# Altium integrated library NSC Amplifier.IntLib: 1615 symbols (part 22 of 44)
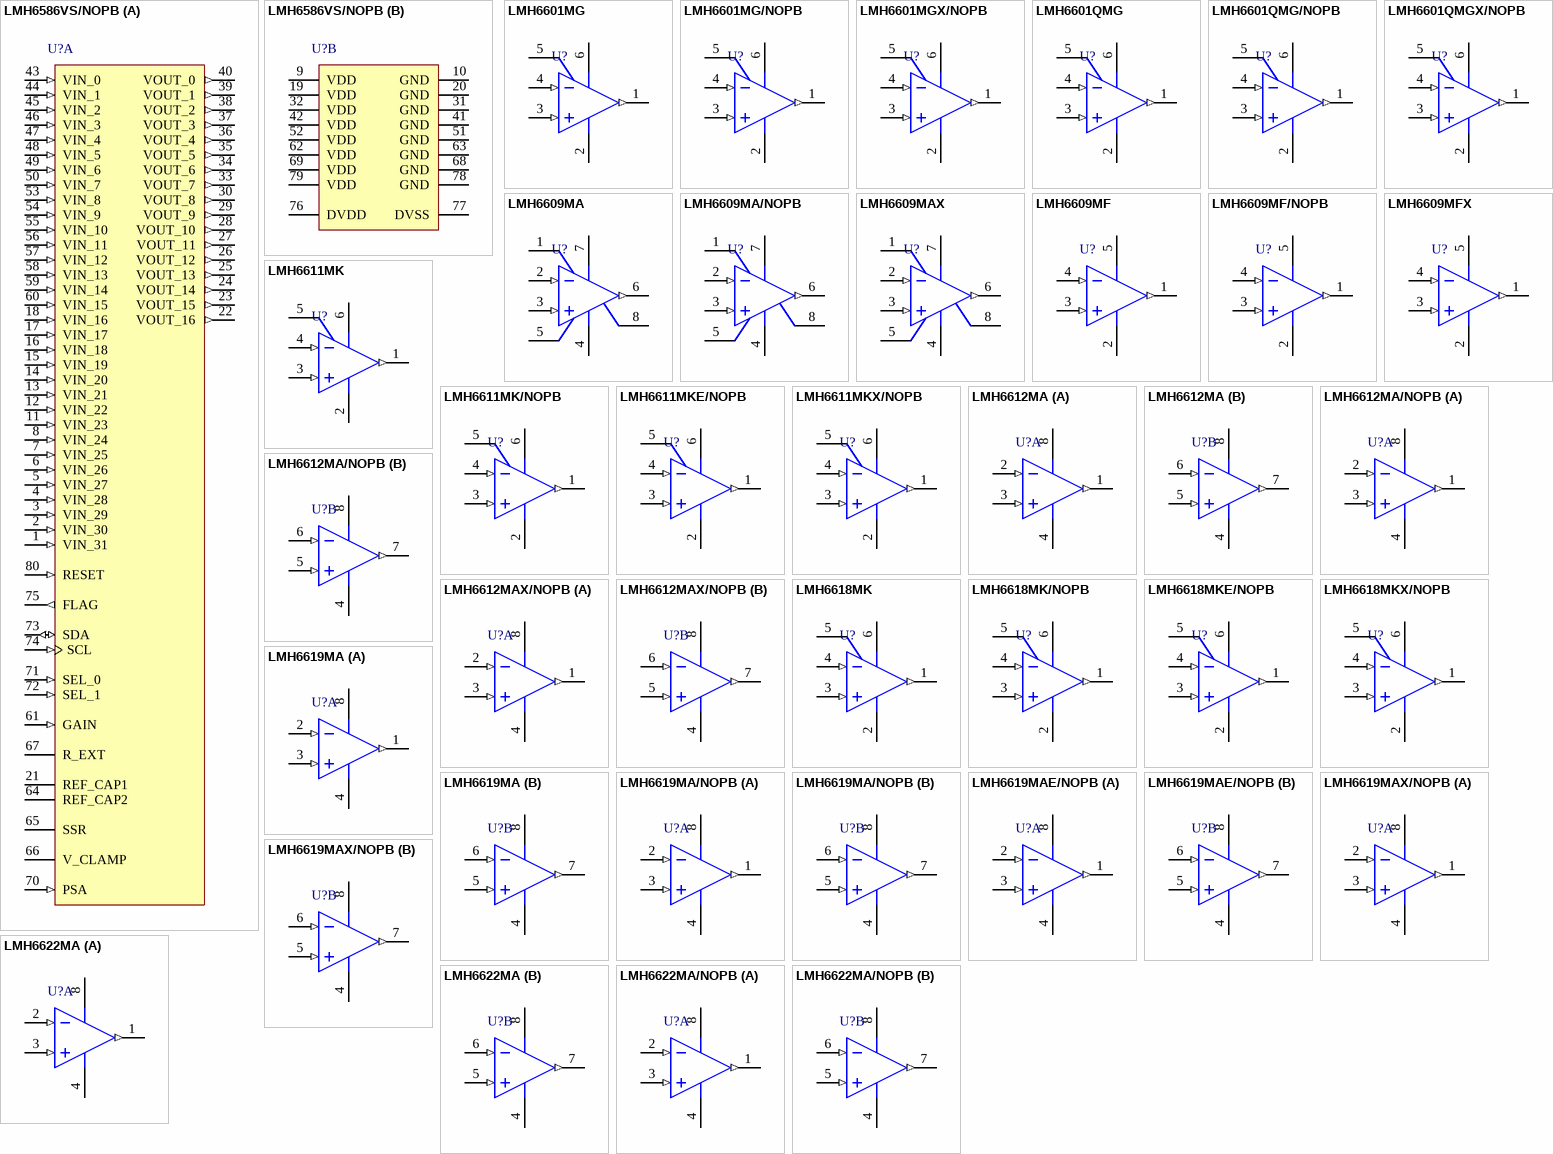
[diagram p103: symbols LMH6586VS/NOPB to LMH6622MA/NOPB]

## LMH6609MAX
designator U?
900 MHz Voltage Feedback Op Amp, 8-pin Narrow SOIC; PartNumber: LMH6609MAX; Manufacturer: National Semiconductor; PackageTopMarking: NSZXTT*LMH66*09MA; PowerWise: N; CompType: Amplifiers; Published: 1-Mar-2010; DatasheetVersion: Aug-2003; PackageVersion: revM, May-2009; PackageReference: M08A; Publisher: Altium Limited; PackageDescription: SOIC Narrow, 4.9 x 3.9 x 1.45mm, 8 Lead, 1.27mm Pitch; RoHS: N; PinCount: 8; Code_JEDEC: MS-012-AA; Code_IPC: SOIC127P600-8; ComponentLink1Description: LMH6609 Datasheet; ComponentLink1URL: http://www.national.com/ds/LM/LMH6609.pdf; ComponentLink2Description: LMH6609 Web Page; ComponentLink2URL: http://www.national.com/pf/LM/LMH6609.html; ComponentLink3Description: M08A Package Page; ComponentLink3URL: http://www.national.com/packaging/folders/m08a.html
footprint M08A_N (SOIC, 8-Leads, Body 4.9x3.9mm, Pitch 1.27mm, IPC Medium Density)
footprint M08A_L (SOIC, 8-Leads, Body 4.9x3.9mm, Pitch 1.27mm, IPC High Density)
footprint M08A_M (SOIC, 8-Leads, Body 4.9x3.9mm, Pitch 1.27mm, IPC Low Density)
simulation model LMH6609 (SUBCKT)
pins: 1 NC, 2 IN- (in), 3 IN+ (in), 4 V- (power), 5 NC, 6 OUT (out), 7 V+ (power), 8 NC

## LMH6609MF
designator U?
900 MHz Voltage Feedback Op Amp, 5-pin SOT-23; PartNumber: LMH6609MF; Manufacturer: National Semiconductor; PackageTopMarking: A89A*XTT; PowerWise: N; CompType: Amplifiers; Published: 4-Dec-2008; LatestRevisionDate: 13-Jan-2009; LatestRevisionNote: Sim Model Added.; DatasheetVersion: Aug-2003; PackageVersion: revD, Aug-2008; PackageReference: MF05A; Publisher: Altium Limited; PackageDescription: Molded SOT-23, .115 x .063 x .040 in Body, 5 Lead, .0375 in Pitch; Supplier 1: Farnell; Supplier Part Number 1: 8180741; RoHS: N; PinCount: 5; ComponentLink1Description: LMH6609 Datasheet; ComponentLink1URL: http://www.national.com/ds/LM/LMH6609.pdf; ComponentLink2Description: LMH6609 Web Page; ComponentLink2URL: http://www.national.com/pf/LM/LMH6609.html; ComponentLink3Description: MF05A Package Page; ComponentLink3URL: http://www.national.com/packaging/folders/mf05a.html
footprint MF05A_N (SOT23, 5-Leads, Body 2.9x1.6mm, Pitch 0.95mm, Lead Span 2.8mm, IPC Medium Density)
footprint MF05A_L (SOT23, 5-Leads, Body 2.9x1.6mm, Pitch 0.95mm, Lead Span 2.8mm, IPC High Density)
footprint MF05A_M (SOT23, 5-Leads, Body 2.9x1.6mm, Pitch 0.95mm, Lead Span 2.8mm, IPC Low Density)
simulation model LMH6609 (SUBCKT)
pins: 1 OUT (out), 2 V- (power), 3 IN+ (in), 4 IN- (in), 5 V+ (power)

## LMH6609MF/NOPB
designator U?
900 MHz Voltage Feedback Op Amp, 5-pin SOT-23, Pb-Free; PartNumber: LMH6609MF/NOPB; Manufacturer: National Semiconductor; PackageTopMarking: A89A*XTT; PowerWise: N; CompType: Amplifiers; Published: 1-Mar-2010; DatasheetVersion: Aug-2003; PackageVersion: revD, Aug-2008; PackageReference: MF05A; Publisher: Altium Limited; PackageDescription: Molded SOT-23, .115 x .063 x .040 in Body, 5 Lead, .0375 in Pitch; Supplier 1: Digi-Key; Supplier Part Number 1: LMH6609MFTR-ND; Supplier 2: Digi-Key; Supplier Part Number 2: LMH6609MFCT-ND; Supplier 3: Digi-Key; Supplier Part Number 3: LMH6609MFDKR-ND; Supplier 4: Farnell; Supplier Part Number 4: 1685370; RoHS: Y; PinCount: 5; ComponentLink1Description: LMH6609 Datasheet; ComponentLink1URL: http://www.national.com/ds/LM/LMH6609.pdf; ComponentLink2Description: LMH6609 Web Page; ComponentLink2URL: http://www.national.com/pf/LM/LMH6609.html; ComponentLink3Description: MF05A Package Page; ComponentLink3URL: http://www.national.com/packaging/folders/mf05a.html
footprint MF05A_N (SOT23, 5-Leads, Body 2.9x1.6mm, Pitch 0.95mm, Lead Span 2.8mm, IPC Medium Density)
footprint MF05A_L (SOT23, 5-Leads, Body 2.9x1.6mm, Pitch 0.95mm, Lead Span 2.8mm, IPC High Density)
footprint MF05A_M (SOT23, 5-Leads, Body 2.9x1.6mm, Pitch 0.95mm, Lead Span 2.8mm, IPC Low Density)
simulation model LMH6609 (SUBCKT)
pins: 1 OUT (out), 2 V- (power), 3 IN+ (in), 4 IN- (in), 5 V+ (power)

## LMH6609MFX
designator U?
900 MHz Voltage Feedback Op Amp, 5-pin SOT-23; PartNumber: LMH6609MFX; Manufacturer: National Semiconductor; PackageTopMarking: A89A*XTT; PowerWise: N; CompType: Amplifiers; Published: 1-Mar-2010; DatasheetVersion: Aug-2003; PackageVersion: revD, Aug-2008; PackageReference: MF05A; Publisher: Altium Limited; PackageDescription: Molded SOT-23, .115 x .063 x .040 in Body, 5 Lead, .0375 in Pitch; RoHS: N; PinCount: 5; ComponentLink1Description: LMH6609 Datasheet; ComponentLink1URL: http://www.national.com/ds/LM/LMH6609.pdf; ComponentLink2Description: LMH6609 Web Page; ComponentLink2URL: http://www.national.com/pf/LM/LMH6609.html; ComponentLink3Description: MF05A Package Page; ComponentLink3URL: http://www.national.com/packaging/folders/mf05a.html
footprint MF05A_N (SOT23, 5-Leads, Body 2.9x1.6mm, Pitch 0.95mm, Lead Span 2.8mm, IPC Medium Density)
footprint MF05A_L (SOT23, 5-Leads, Body 2.9x1.6mm, Pitch 0.95mm, Lead Span 2.8mm, IPC High Density)
footprint MF05A_M (SOT23, 5-Leads, Body 2.9x1.6mm, Pitch 0.95mm, Lead Span 2.8mm, IPC Low Density)
simulation model LMH6609 (SUBCKT)
pins: 1 OUT (out), 2 V- (power), 3 IN+ (in), 4 IN- (in), 5 V+ (power)

## LMH6611MK
designator U?
Single Supply 345 MHz Rail-to-Rail Output Amplifier, 6-pin Tiny SOT23; PartNumber: LMH6611MK; Manufacturer: National Semiconductor; PackageTopMarking: AX4A*XTT; PowerWise: Y; CompType: Amplifiers; Published: 4-Dec-2008; DatasheetVersion: Jan-2010; PackageVersion: revE, Nov-2008; PackageReference: MK06A; Publisher: Altium Limited; PackageDescription: Molded TSOT, 2.97 x 1.65 x 0.87mm Body, 6 Lead, 0.95mm Pitch; RoHS: Y; PinCount: 6; Code_JEDEC: MO-193-AA; Code_IPC: SOT26A-6; ComponentLink1Description: LMH6611 Datasheet; ComponentLink1URL: http://www.national.com/ds/LM/LMH6611.pdf; ComponentLink2Description: LMH6611 Web Page; ComponentLink2URL: http://www.national.com/pf/LM/LMH6611.html; ComponentLink3Description: MK06A Package Page; ComponentLink3URL: http://www.national.com/packaging/folders/mk06a.html
footprint MK06A_N (SOT23, 6-Leads, Body 3.0x1.7mm, Pitch 0.95mm, Lead Span 2.9mm, IPC Medium Density)
footprint MK06A_L (SOT23, 6-Leads, Body 3.0x1.7mm, Pitch 0.95mm, Lead Span 2.9mm, IPC High Density)
footprint MK06A_M (SOT23, 6-Leads, Body 3.0x1.7mm, Pitch 0.95mm, Lead Span 2.9mm, IPC Low Density)
pins: 1 OUT (out), 2 V- (power), 3 IN+ (in), 4 IN- (in), 5 ~{DIS}, 6 V+ (power)

## LMH6611MK/NOPB
designator U?
Single Supply 345 MHz Rail-to-Rail Output Amplifier, 6-pin Tiny SOT23, Pb-Free; PartNumber: LMH6611MK/NOPB; Manufacturer: National Semiconductor; PackageTopMarking: AX4A*XTT; PowerWise: Y; CompType: Amplifiers; Published: 1-Mar-2010; DatasheetVersion: Jan-2010; PackageVersion: revE, Nov-2008; PackageReference: MK06A; Publisher: Altium Limited; PackageDescription: Molded TSOT, 2.97 x 1.65 x 0.87mm Body, 6 Lead, 0.95mm Pitch; Supplier 1: Digi-Key; Supplier Part Number 1: LMH6611MK-ND; RoHS: Y; PinCount: 6; Code_JEDEC: MO-193-AA; Code_IPC: SOT26A-6; ComponentLink1Description: LMH6611 Datasheet; ComponentLink1URL: http://www.national.com/ds/LM/LMH6611.pdf; ComponentLink2Description: LMH6611 Web Page; ComponentLink2URL: http://www.national.com/pf/LM/LMH6611.html; ComponentLink3Description: MK06A Package Page; ComponentLink3URL: http://www.national.com/packaging/folders/mk06a.html
footprint MK06A_N (SOT23, 6-Leads, Body 3.0x1.7mm, Pitch 0.95mm, Lead Span 2.9mm, IPC Medium Density)
footprint MK06A_L (SOT23, 6-Leads, Body 3.0x1.7mm, Pitch 0.95mm, Lead Span 2.9mm, IPC High Density)
footprint MK06A_M (SOT23, 6-Leads, Body 3.0x1.7mm, Pitch 0.95mm, Lead Span 2.9mm, IPC Low Density)
simulation model LMH6611 (SUBCKT)
pins: 1 OUT (out), 2 V- (power), 3 IN+ (in), 4 IN- (in), 5 ~{DIS}, 6 V+ (power)

## LMH6611MKE/NOPB
designator U?
Single Supply 345 MHz Rail-to-Rail Output Amplifier, 6-pin Tiny SOT23, Pb-Free; PartNumber: LMH6611MKE/NOPB; Manufacturer: National Semiconductor; PackageTopMarking: AX4A*XTT; PowerWise: Y; CompType: Amplifiers; Published: 1-Mar-2010; DatasheetVersion: Jan-2010; PackageVersion: revE, Nov-2008; PackageReference: MK06A; Publisher: Altium Limited; PackageDescription: Molded TSOT, 2.97 x 1.65 x 0.87mm Body, 6 Lead, 0.95mm Pitch; Supplier 1: Digi-Key; Supplier Part Number 1: LMH6611MKETR-ND; Supplier 2: Digi-Key; Supplier Part Number 2: LMH6611MKECT-ND; Supplier 3: Digi-Key; Supplier Part Number 3: LMH6611MKEDKR-ND; Supplier 4: Farnell; Supplier Part Number 4: 1694367; RoHS: Y; PinCount: 6; Code_JEDEC: MO-193-AA; Code_IPC: SOT26A-6; ComponentLink1Description: LMH6611 Datasheet; ComponentLink1URL: http://www.national.com/ds/LM/LMH6611.pdf; ComponentLink2Description: LMH6611 Web Page; ComponentLink2URL: http://www.national.com/pf/LM/LMH6611.html; ComponentLink3Description: MK06A Package Page; ComponentLink3URL: http://www.national.com/packaging/folders/mk06a.html
footprint MK06A_N (SOT23, 6-Leads, Body 3.0x1.7mm, Pitch 0.95mm, Lead Span 2.9mm, IPC Medium Density)
footprint MK06A_L (SOT23, 6-Leads, Body 3.0x1.7mm, Pitch 0.95mm, Lead Span 2.9mm, IPC High Density)
footprint MK06A_M (SOT23, 6-Leads, Body 3.0x1.7mm, Pitch 0.95mm, Lead Span 2.9mm, IPC Low Density)
simulation model LMH6611 (SUBCKT)
pins: 1 OUT (out), 2 V- (power), 3 IN+ (in), 4 IN- (in), 5 ~{DIS}, 6 V+ (power)

## LMH6611MKX/NOPB
designator U?
Single Supply 345 MHz Rail-to-Rail Output Amplifier, 6-pin Tiny SOT23, Pb-Free; PartNumber: LMH6611MKX/NOPB; Manufacturer: National Semiconductor; PackageTopMarking: AX4A*XTT; PowerWise: Y; CompType: Amplifiers; Published: 1-Mar-2010; DatasheetVersion: Jan-2010; PackageVersion: revE, Nov-2008; PackageReference: MK06A; Publisher: Altium Limited; PackageDescription: Molded TSOT, 2.97 x 1.65 x 0.87mm Body, 6 Lead, 0.95mm Pitch; Supplier 1: Digi-Key; Supplier Part Number 1: LMH6611MKX-ND; RoHS: Y; PinCount: 6; Code_JEDEC: MO-193-AA; Code_IPC: SOT26A-6; ComponentLink1Description: LMH6611 Datasheet; ComponentLink1URL: http://www.national.com/ds/LM/LMH6611.pdf; ComponentLink2Description: LMH6611 Web Page; ComponentLink2URL: http://www.national.com/pf/LM/LMH6611.html; ComponentLink3Description: MK06A Package Page; ComponentLink3URL: http://www.national.com/packaging/folders/mk06a.html
footprint MK06A_N (SOT23, 6-Leads, Body 3.0x1.7mm, Pitch 0.95mm, Lead Span 2.9mm, IPC Medium Density)
footprint MK06A_L (SOT23, 6-Leads, Body 3.0x1.7mm, Pitch 0.95mm, Lead Span 2.9mm, IPC High Density)
footprint MK06A_M (SOT23, 6-Leads, Body 3.0x1.7mm, Pitch 0.95mm, Lead Span 2.9mm, IPC Low Density)
simulation model LMH6611 (SUBCKT)
pins: 1 OUT (out), 2 V- (power), 3 IN+ (in), 4 IN- (in), 5 ~{DIS}, 6 V+ (power)

## LMH6612MA
designator U?
Single Supply, Dual 345 MHz Rail-to-Rail Output Amplifier, 8-pin Narrow SOIC; PartNumber: LMH6612MA; Manufacturer: National Semiconductor; PackageTopMarking: NSZXTT*LMH66*12MA; PowerWise: Y; CompType: Amplifiers; Published: 4-Dec-2008; DatasheetVersion: Jan-2010; PackageVersion: revM, May-2009; PackageReference: M08A; Publisher: Altium Limited; PackageDescription: SOIC Narrow, 4.9 x 3.9 x 1.45mm, 8 Lead, 1.27mm Pitch; Supplier 1: Farnell; Supplier Part Number 1: 1609184; RoHS: Y; PinCount: 8; Code_JEDEC: MS-012-AA; Code_IPC: SOIC127P600-8; ComponentLink1Description: LMH6612 Datasheet; ComponentLink1URL: http://www.national.com/ds/LM/LMH6612.pdf; ComponentLink2Description: LMH6612 Web Page; ComponentLink2URL: http://www.national.com/pf/LM/LMH6612.html; ComponentLink3Description: M08A Package Page; ComponentLink3URL: http://www.national.com/packaging/folders/m08a.html
footprint M08A_N (SOIC, 8-Leads, Body 4.9x3.9mm, Pitch 1.27mm, IPC Medium Density)
footprint M08A_L (SOIC, 8-Leads, Body 4.9x3.9mm, Pitch 1.27mm, IPC High Density)
footprint M08A_M (SOIC, 8-Leads, Body 4.9x3.9mm, Pitch 1.27mm, IPC Low Density)
pins on every part: 4 V- (power), 8 V+ (power)
part A pins: 1 OUTA (out), 2 INA- (in), 3 INA+ (in)
part B pins: 5 INB+ (in), 6 INB- (in), 7 OUTB (out)

## LMH6612MA/NOPB
designator U?
Single Supply, Dual 345 MHz Rail-to-Rail Output Amplifier, 8-pin Narrow SOIC, Pb-Free; PartNumber: LMH6612MA/NOPB; Manufacturer: National Semiconductor; PackageTopMarking: NSZXTT*LMH66*12MA; PowerWise: Y; CompType: Amplifiers; Published: 1-Mar-2010; DatasheetVersion: Jan-2010; PackageVersion: revM, May-2009; PackageReference: M08A; Publisher: Altium Limited; PackageDescription: SOIC Narrow, 4.9 x 3.9 x 1.45mm, 8 Lead, 1.27mm Pitch; Supplier 1: Digi-Key; Supplier Part Number 1: LMH6612MA-ND; RoHS: Y; PinCount: 8; Code_JEDEC: MS-012-AA; Code_IPC: SOIC127P600-8; ComponentLink1Description: LMH6612 Datasheet; ComponentLink1URL: http://www.national.com/ds/LM/LMH6612.pdf; ComponentLink2Description: LMH6612 Web Page; ComponentLink2URL: http://www.national.com/pf/LM/LMH6612.html; ComponentLink3Description: M08A Package Page; ComponentLink3URL: http://www.national.com/packaging/folders/m08a.html
footprint M08A_N (SOIC, 8-Leads, Body 4.9x3.9mm, Pitch 1.27mm, IPC Medium Density)
footprint M08A_L (SOIC, 8-Leads, Body 4.9x3.9mm, Pitch 1.27mm, IPC High Density)
footprint M08A_M (SOIC, 8-Leads, Body 4.9x3.9mm, Pitch 1.27mm, IPC Low Density)
simulation model LMH6612 (SUBCKT)
pins on every part: 4 V- (power), 8 V+ (power)
part A pins: 1 OUTA (out), 2 INA- (in), 3 INA+ (in)
part B pins: 5 INB+ (in), 6 INB- (in), 7 OUTB (out)

## LMH6612MAX/NOPB
designator U?
Single Supply, Dual 345 MHz Rail-to-Rail Output Amplifier, 8-pin Narrow SOIC, Pb-Free; PartNumber: LMH6612MAX/NOPB; Manufacturer: National Semiconductor; PackageTopMarking: NSZXTT*LMH66*12MA; PowerWise: Y; CompType: Amplifiers; Published: 1-Mar-2010; DatasheetVersion: Jan-2010; PackageVersion: revM, May-2009; PackageReference: M08A; Publisher: Altium Limited; PackageDescription: SOIC Narrow, 4.9 x 3.9 x 1.45mm, 8 Lead, 1.27mm Pitch; Supplier 1: Digi-Key; Supplier Part Number 1: LMH6612MAX-ND; RoHS: Y; PinCount: 8; Code_JEDEC: MS-012-AA; Code_IPC: SOIC127P600-8; ComponentLink1Description: LMH6612 Datasheet; ComponentLink1URL: http://www.national.com/ds/LM/LMH6612.pdf; ComponentLink2Description: LMH6612 Web Page; ComponentLink2URL: http://www.national.com/pf/LM/LMH6612.html; ComponentLink3Description: M08A Package Page; ComponentLink3URL: http://www.national.com/packaging/folders/m08a.html
footprint M08A_N (SOIC, 8-Leads, Body 4.9x3.9mm, Pitch 1.27mm, IPC Medium Density)
footprint M08A_L (SOIC, 8-Leads, Body 4.9x3.9mm, Pitch 1.27mm, IPC High Density)
footprint M08A_M (SOIC, 8-Leads, Body 4.9x3.9mm, Pitch 1.27mm, IPC Low Density)
simulation model LMH6612 (SUBCKT)
pins on every part: 4 V- (power), 8 V+ (power)
part A pins: 1 OUTA (out), 2 INA- (in), 3 INA+ (in)
part B pins: 5 INB+ (in), 6 INB- (in), 7 OUTB (out)

## LMH6618MK
designator U?
Single 130 MHz, 1.25 mA RRIO Operational Amplifiers, 6-pin Tiny SOT23; PartNumber: LMH6618MK; Manufacturer: National Semiconductor; PackageTopMarking: AE4A*XTT; PowerWise: Y; Published: 4-Dec-2008; LatestRevisionDate: 13-Jan-2009; LatestRevisionNote: Sim Model Added.; DatasheetVersion: Aug-2008; PackageVersion: revE, Nov-2008; PackageReference: MK06A; Publisher: Altium Limited; PackageDescription: Molded TSOT, 2.97 x 1.65 x 0.87mm Body, 6 Lead, 0.95mm Pitch; RoHS: Y; PinCount: 6; CompType: Amplifiers; Code_JEDEC: MO-193-AA; Code_IPC: SOT26A-6; ComponentLink1Description: LMH6618 Datasheet; ComponentLink1URL: http://www.national.com/ds/LM/LMH6618.pdf; ComponentLink2Description: LMH6618 Web Page; ComponentLink2URL: http://www.national.com/pf/LM/LMH6618.html; ComponentLink3Description: MK06A Package Page; ComponentLink3URL: http://www.national.com/packaging/folders/mk06a.html
footprint MK06A_N (SOT23, 6-Leads, Body 3.0x1.7mm, Pitch 0.95mm, Lead Span 2.9mm, IPC Medium Density)
footprint MK06A_L (SOT23, 6-Leads, Body 3.0x1.7mm, Pitch 0.95mm, Lead Span 2.9mm, IPC High Density)
footprint MK06A_M (SOT23, 6-Leads, Body 3.0x1.7mm, Pitch 0.95mm, Lead Span 2.9mm, IPC Low Density)
simulation model LMH6618 (SUBCKT)
pins: 1 OUT (out), 2 V- (power), 3 IN+ (in), 4 IN- (in), 5 ~{DIS}, 6 V+ (power)

## LMH6618MK/NOPB
designator U?
Single 130 MHz, 1.25 mA RRIO Operational Amplifiers, 6-pin Tiny SOT23, Pb-Free; PartNumber: LMH6618MK/NOPB; Manufacturer: National Semiconductor; PackageTopMarking: AE4A*XTT; PowerWise: Y; Published: 1-Mar-2010; DatasheetVersion: Aug-2008; PackageVersion: revE, Nov-2008; PackageReference: MK06A; Publisher: Altium Limited; PackageDescription: Molded TSOT, 2.97 x 1.65 x 0.87mm Body, 6 Lead, 0.95mm Pitch; Supplier 1: Digi-Key; Supplier Part Number 1: LMH6618MKTR-ND; Supplier 2: Digi-Key; Supplier Part Number 2: LMH6618MKCT-ND; Supplier 3: Digi-Key; Supplier Part Number 3: LMH6618MKDKR-ND; RoHS: Y; PinCount: 6; CompType: Amplifiers; Code_JEDEC: MO-193-AA; Code_IPC: SOT26A-6; ComponentLink1Description: LMH6618 Datasheet; ComponentLink1URL: http://www.national.com/ds/LM/LMH6618.pdf; ComponentLink2Description: LMH6618 Web Page; ComponentLink2URL: http://www.national.com/pf/LM/LMH6618.html; ComponentLink3Description: MK06A Package Page; ComponentLink3URL: http://www.national.com/packaging/folders/mk06a.html
footprint MK06A_N (SOT23, 6-Leads, Body 3.0x1.7mm, Pitch 0.95mm, Lead Span 2.9mm, IPC Medium Density)
footprint MK06A_L (SOT23, 6-Leads, Body 3.0x1.7mm, Pitch 0.95mm, Lead Span 2.9mm, IPC High Density)
footprint MK06A_M (SOT23, 6-Leads, Body 3.0x1.7mm, Pitch 0.95mm, Lead Span 2.9mm, IPC Low Density)
simulation model LMH6618 (SUBCKT)
pins: 1 OUT (out), 2 V- (power), 3 IN+ (in), 4 IN- (in), 5 ~{DIS}, 6 V+ (power)

## LMH6618MKE/NOPB
designator U?
Single 130 MHz, 1.25 mA RRIO Operational Amplifiers, 6-pin Tiny SOT23, Pb-Free; PartNumber: LMH6618MKE/NOPB; Manufacturer: National Semiconductor; PackageTopMarking: AE4A*XTT; PowerWise: Y; Published: 1-Mar-2010; DatasheetVersion: Aug-2008; PackageVersion: revE, Nov-2008; PackageReference: MK06A; Publisher: Altium Limited; PackageDescription: Molded TSOT, 2.97 x 1.65 x 0.87mm Body, 6 Lead, 0.95mm Pitch; Supplier 1: Digi-Key; Supplier Part Number 1: LMH6618MKE-ND; RoHS: Y; PinCount: 6; CompType: Amplifiers; Code_JEDEC: MO-193-AA; Code_IPC: SOT26A-6; ComponentLink1Description: LMH6618 Datasheet; ComponentLink1URL: http://www.national.com/ds/LM/LMH6618.pdf; ComponentLink2Description: LMH6618 Web Page; ComponentLink2URL: http://www.national.com/pf/LM/LMH6618.html; ComponentLink3Description: MK06A Package Page; ComponentLink3URL: http://www.national.com/packaging/folders/mk06a.html
footprint MK06A_N (SOT23, 6-Leads, Body 3.0x1.7mm, Pitch 0.95mm, Lead Span 2.9mm, IPC Medium Density)
footprint MK06A_L (SOT23, 6-Leads, Body 3.0x1.7mm, Pitch 0.95mm, Lead Span 2.9mm, IPC High Density)
footprint MK06A_M (SOT23, 6-Leads, Body 3.0x1.7mm, Pitch 0.95mm, Lead Span 2.9mm, IPC Low Density)
simulation model LMH6618 (SUBCKT)
pins: 1 OUT (out), 2 V- (power), 3 IN+ (in), 4 IN- (in), 5 ~{DIS}, 6 V+ (power)

## LMH6618MKX/NOPB
designator U?
Single 130 MHz, 1.25 mA RRIO Operational Amplifiers, 6-pin Tiny SOT23, Pb-Free; PartNumber: LMH6618MKX/NOPB; Manufacturer: National Semiconductor; PackageTopMarking: AE4A*XTT; PowerWise: Y; Published: 1-Mar-2010; DatasheetVersion: Aug-2008; PackageVersion: revE, Nov-2008; PackageReference: MK06A; Publisher: Altium Limited; PackageDescription: Molded TSOT, 2.97 x 1.65 x 0.87mm Body, 6 Lead, 0.95mm Pitch; Supplier 1: Digi-Key; Supplier Part Number 1: LMH6618MKX-ND; RoHS: Y; PinCount: 6; CompType: Amplifiers; Code_JEDEC: MO-193-AA; Code_IPC: SOT26A-6; ComponentLink1Description: LMH6618 Datasheet; ComponentLink1URL: http://www.national.com/ds/LM/LMH6618.pdf; ComponentLink2Description: LMH6618 Web Page; ComponentLink2URL: http://www.national.com/pf/LM/LMH6618.html; ComponentLink3Description: MK06A Package Page; ComponentLink3URL: http://www.national.com/packaging/folders/mk06a.html
footprint MK06A_N (SOT23, 6-Leads, Body 3.0x1.7mm, Pitch 0.95mm, Lead Span 2.9mm, IPC Medium Density)
footprint MK06A_L (SOT23, 6-Leads, Body 3.0x1.7mm, Pitch 0.95mm, Lead Span 2.9mm, IPC High Density)
footprint MK06A_M (SOT23, 6-Leads, Body 3.0x1.7mm, Pitch 0.95mm, Lead Span 2.9mm, IPC Low Density)
simulation model LMH6618 (SUBCKT)
pins: 1 OUT (out), 2 V- (power), 3 IN+ (in), 4 IN- (in), 5 ~{DIS}, 6 V+ (power)

## LMH6619MA
designator U?
Dual 130 MHz, 1.25 mA RRIO Operational Amplifiers, 8-pin Narrow SOIC; PartNumber: LMH6619MA; Manufacturer: National Semiconductor; PackageTopMarking: NSZXTT*LMH66*19MA; PowerWise: Y; Published: 4-Dec-2008; LatestRevisionDate: 13-Jan-2009; LatestRevisionNote: Sim Model Added.; DatasheetVersion: Aug-2008; PackageVersion: revM, May-2009; PackageReference: M08A; Publisher: Altium Limited; PackageDescription: SOIC Narrow, 4.9 x 3.9 x 1.45mm, 8 Lead, 1.27mm Pitch; Supplier 1: Farnell; Supplier Part Number 1: 1535367; RoHS: Y; PinCount: 8; CompType: Amplifiers; Code_JEDEC: MS-012-AA; Code_IPC: SOIC127P600-8; ComponentLink1Description: LMH6619 Datasheet; ComponentLink1URL: http://www.national.com/ds/LM/LMH6619.pdf; ComponentLink2Description: LMH6619 Web Page; ComponentLink2URL: http://www.national.com/pf/LM/LMH6619.html; ComponentLink3Description: M08A Package Page; ComponentLink3URL: http://www.national.com/packaging/folders/m08a.html
footprint M08A_N (SOIC, 8-Leads, Body 4.9x3.9mm, Pitch 1.27mm, IPC Medium Density)
footprint M08A_L (SOIC, 8-Leads, Body 4.9x3.9mm, Pitch 1.27mm, IPC High Density)
footprint M08A_M (SOIC, 8-Leads, Body 4.9x3.9mm, Pitch 1.27mm, IPC Low Density)
simulation model LMH6619 (SUBCKT)
pins on every part: 4 V- (power), 8 V+ (power)
part A pins: 1 OUTA (out), 2 INA- (in), 3 INA+ (in)
part B pins: 5 INB+ (in), 6 INB- (in), 7 OUTB (out)

## LMH6619MA/NOPB
designator U?
Dual 130 MHz, 1.25 mA RRIO Operational Amplifiers, 8-pin Narrow SOIC, Pb-Free; PartNumber: LMH6619MA/NOPB; Manufacturer: National Semiconductor; PackageTopMarking: NSZXTT*LMH66*19MA; PowerWise: Y; Published: 1-Mar-2010; DatasheetVersion: Aug-2008; PackageVersion: revM, May-2009; PackageReference: M08A; Publisher: Altium Limited; PackageDescription: SOIC Narrow, 4.9 x 3.9 x 1.45mm, 8 Lead, 1.27mm Pitch; Supplier 1: Digi-Key; Supplier Part Number 1: LMH6619MA-ND; RoHS: Y; PinCount: 8; CompType: Amplifiers; Code_JEDEC: MS-012-AA; Code_IPC: SOIC127P600-8; ComponentLink1Description: LMH6619 Datasheet; ComponentLink1URL: http://www.national.com/ds/LM/LMH6619.pdf; ComponentLink2Description: LMH6619 Web Page; ComponentLink2URL: http://www.national.com/pf/LM/LMH6619.html; ComponentLink3Description: M08A Package Page; ComponentLink3URL: http://www.national.com/packaging/folders/m08a.html
footprint M08A_N (SOIC, 8-Leads, Body 4.9x3.9mm, Pitch 1.27mm, IPC Medium Density)
footprint M08A_L (SOIC, 8-Leads, Body 4.9x3.9mm, Pitch 1.27mm, IPC High Density)
footprint M08A_M (SOIC, 8-Leads, Body 4.9x3.9mm, Pitch 1.27mm, IPC Low Density)
simulation model LMH6619 (SUBCKT)
pins on every part: 4 V- (power), 8 V+ (power)
part A pins: 1 OUTA (out), 2 INA- (in), 3 INA+ (in)
part B pins: 5 INB+ (in), 6 INB- (in), 7 OUTB (out)

## LMH6619MAE/NOPB
designator U?
Dual 130 MHz, 1.25 mA RRIO Operational Amplifiers, 8-pin Narrow SOIC, Pb-Free; PartNumber: LMH6619MAE/NOPB; Manufacturer: National Semiconductor; PackageTopMarking: NSZXTT*LMH66*19MA; PowerWise: Y; Published: 1-Mar-2010; DatasheetVersion: Aug-2008; PackageVersion: revM, May-2009; PackageReference: M08A; Publisher: Altium Limited; PackageDescription: SOIC Narrow, 4.9 x 3.9 x 1.45mm, 8 Lead, 1.27mm Pitch; Supplier 1: Digi-Key; Supplier Part Number 1: LMH6619MAE-ND; RoHS: Y; PinCount: 8; CompType: Amplifiers; Code_JEDEC: MS-012-AA; Code_IPC: SOIC127P600-8; ComponentLink1Description: LMH6619 Datasheet; ComponentLink1URL: http://www.national.com/ds/LM/LMH6619.pdf; ComponentLink2Description: LMH6619 Web Page; ComponentLink2URL: http://www.national.com/pf/LM/LMH6619.html; ComponentLink3Description: M08A Package Page; ComponentLink3URL: http://www.national.com/packaging/folders/m08a.html
footprint M08A_N (SOIC, 8-Leads, Body 4.9x3.9mm, Pitch 1.27mm, IPC Medium Density)
footprint M08A_L (SOIC, 8-Leads, Body 4.9x3.9mm, Pitch 1.27mm, IPC High Density)
footprint M08A_M (SOIC, 8-Leads, Body 4.9x3.9mm, Pitch 1.27mm, IPC Low Density)
simulation model LMH6619 (SUBCKT)
pins on every part: 4 V- (power), 8 V+ (power)
part A pins: 1 OUTA (out), 2 INA- (in), 3 INA+ (in)
part B pins: 5 INB+ (in), 6 INB- (in), 7 OUTB (out)

## LMH6619MAX/NOPB
designator U?
Dual 130 MHz, 1.25 mA RRIO Operational Amplifiers, 8-pin Narrow SOIC, Pb-Free; PartNumber: LMH6619MAX/NOPB; Manufacturer: National Semiconductor; PackageTopMarking: NSZXTT*LMH66*19MA; PowerWise: Y; Published: 1-Mar-2010; DatasheetVersion: Aug-2008; PackageVersion: revM, May-2009; PackageReference: M08A; Publisher: Altium Limited; PackageDescription: SOIC Narrow, 4.9 x 3.9 x 1.45mm, 8 Lead, 1.27mm Pitch; Supplier 1: Digi-Key; Supplier Part Number 1: LMH6619MAX-ND; RoHS: Y; PinCount: 8; CompType: Amplifiers; Code_JEDEC: MS-012-AA; Code_IPC: SOIC127P600-8; ComponentLink1Description: LMH6619 Datasheet; ComponentLink1URL: http://www.national.com/ds/LM/LMH6619.pdf; ComponentLink2Description: LMH6619 Web Page; ComponentLink2URL: http://www.national.com/pf/LM/LMH6619.html; ComponentLink3Description: M08A Package Page; ComponentLink3URL: http://www.national.com/packaging/folders/m08a.html
footprint M08A_N (SOIC, 8-Leads, Body 4.9x3.9mm, Pitch 1.27mm, IPC Medium Density)
footprint M08A_L (SOIC, 8-Leads, Body 4.9x3.9mm, Pitch 1.27mm, IPC High Density)
footprint M08A_M (SOIC, 8-Leads, Body 4.9x3.9mm, Pitch 1.27mm, IPC Low Density)
simulation model LMH6619 (SUBCKT)
pins on every part: 4 V- (power), 8 V+ (power)
part A pins: 1 OUTA (out), 2 INA- (in), 3 INA+ (in)
part B pins: 5 INB+ (in), 6 INB- (in), 7 OUTB (out)

## LMH6622MA
designator U?
Dual Wideband, Low Noise, 160MHz, Operational Amplifiers, 8-pin Narrow SOIC; PartNumber: LMH6622MA; Manufacturer: National Semiconductor; PackageTopMarking: NSZXTT*LMH66*22MA; PowerWise: Y; Published: 4-Dec-2008; LatestRevisionDate: 13-Jan-2009; LatestRevisionNote: Sim Model Added.; DatasheetVersion: Jul-2005; PackageVersion: revM, May-2009; PackageReference: M08A; Publisher: Altium Limited; PackageDescription: SOIC Narrow, 4.9 x 3.9 x 1.45mm, 8 Lead, 1.27mm Pitch; Supplier 1: Farnell; Supplier Part Number 1: 1286938; RoHS: N; PinCount: 8; CompType: Amplifiers; Code_JEDEC: MS-012-AA; Code_IPC: SOIC127P600-8; ComponentLink1Description: LMH6622 Datasheet; ComponentLink1URL: http://www.national.com/ds/LM/LMH6622.pdf; ComponentLink2Description: LMH6622 Web Page; ComponentLink2URL: http://www.national.com/pf/LM/LMH6622.html; ComponentLink3Description: M08A Package Page; ComponentLink3URL: http://www.national.com/packaging/folders/m08a.html
footprint M08A_N (SOIC, 8-Leads, Body 4.9x3.9mm, Pitch 1.27mm, IPC Medium Density)
footprint M08A_L (SOIC, 8-Leads, Body 4.9x3.9mm, Pitch 1.27mm, IPC High Density)
footprint M08A_M (SOIC, 8-Leads, Body 4.9x3.9mm, Pitch 1.27mm, IPC Low Density)
simulation model LMH6622 (SUBCKT)
pins on every part: 4 V- (power), 8 V+ (power)
part A pins: 1 OUTA (out), 2 INA- (in), 3 INA+ (in)
part B pins: 5 INB+ (in), 6 INB- (in), 7 OUTB (out)

## LMH6622MA/NOPB
designator U?
Dual Wideband, Low Noise, 160MHz, Operational Amplifiers, 8-pin Narrow SOIC, Pb-Free; PartNumber: LMH6622MA/NOPB; Manufacturer: National Semiconductor; PackageTopMarking: NSZXTT*LMH66*22MA; PowerWise: Y; Published: 1-Mar-2010; DatasheetVersion: Jul-2005; PackageVersion: revM, May-2009; PackageReference: M08A; Publisher: Altium Limited; PackageDescription: SOIC Narrow, 4.9 x 3.9 x 1.45mm, 8 Lead, 1.27mm Pitch; Supplier 1: Digi-Key; Supplier Part Number 1: LMH6622MA-ND; Supplier 2: Farnell; Supplier Part Number 2: 1693957; RoHS: Y; PinCount: 8; CompType: Amplifiers; Code_JEDEC: MS-012-AA; Code_IPC: SOIC127P600-8; ComponentLink1Description: LMH6622 Datasheet; ComponentLink1URL: http://www.national.com/ds/LM/LMH6622.pdf; ComponentLink2Description: LMH6622 Web Page; ComponentLink2URL: http://www.national.com/pf/LM/LMH6622.html; ComponentLink3Description: M08A Package Page; ComponentLink3URL: http://www.national.com/packaging/folders/m08a.html
footprint M08A_N (SOIC, 8-Leads, Body 4.9x3.9mm, Pitch 1.27mm, IPC Medium Density)
footprint M08A_L (SOIC, 8-Leads, Body 4.9x3.9mm, Pitch 1.27mm, IPC High Density)
footprint M08A_M (SOIC, 8-Leads, Body 4.9x3.9mm, Pitch 1.27mm, IPC Low Density)
simulation model LMH6622 (SUBCKT)
pins on every part: 4 V- (power), 8 V+ (power)
part A pins: 1 OUTA (out), 2 INA- (in), 3 INA+ (in)
part B pins: 5 INB+ (in), 6 INB- (in), 7 OUTB (out)

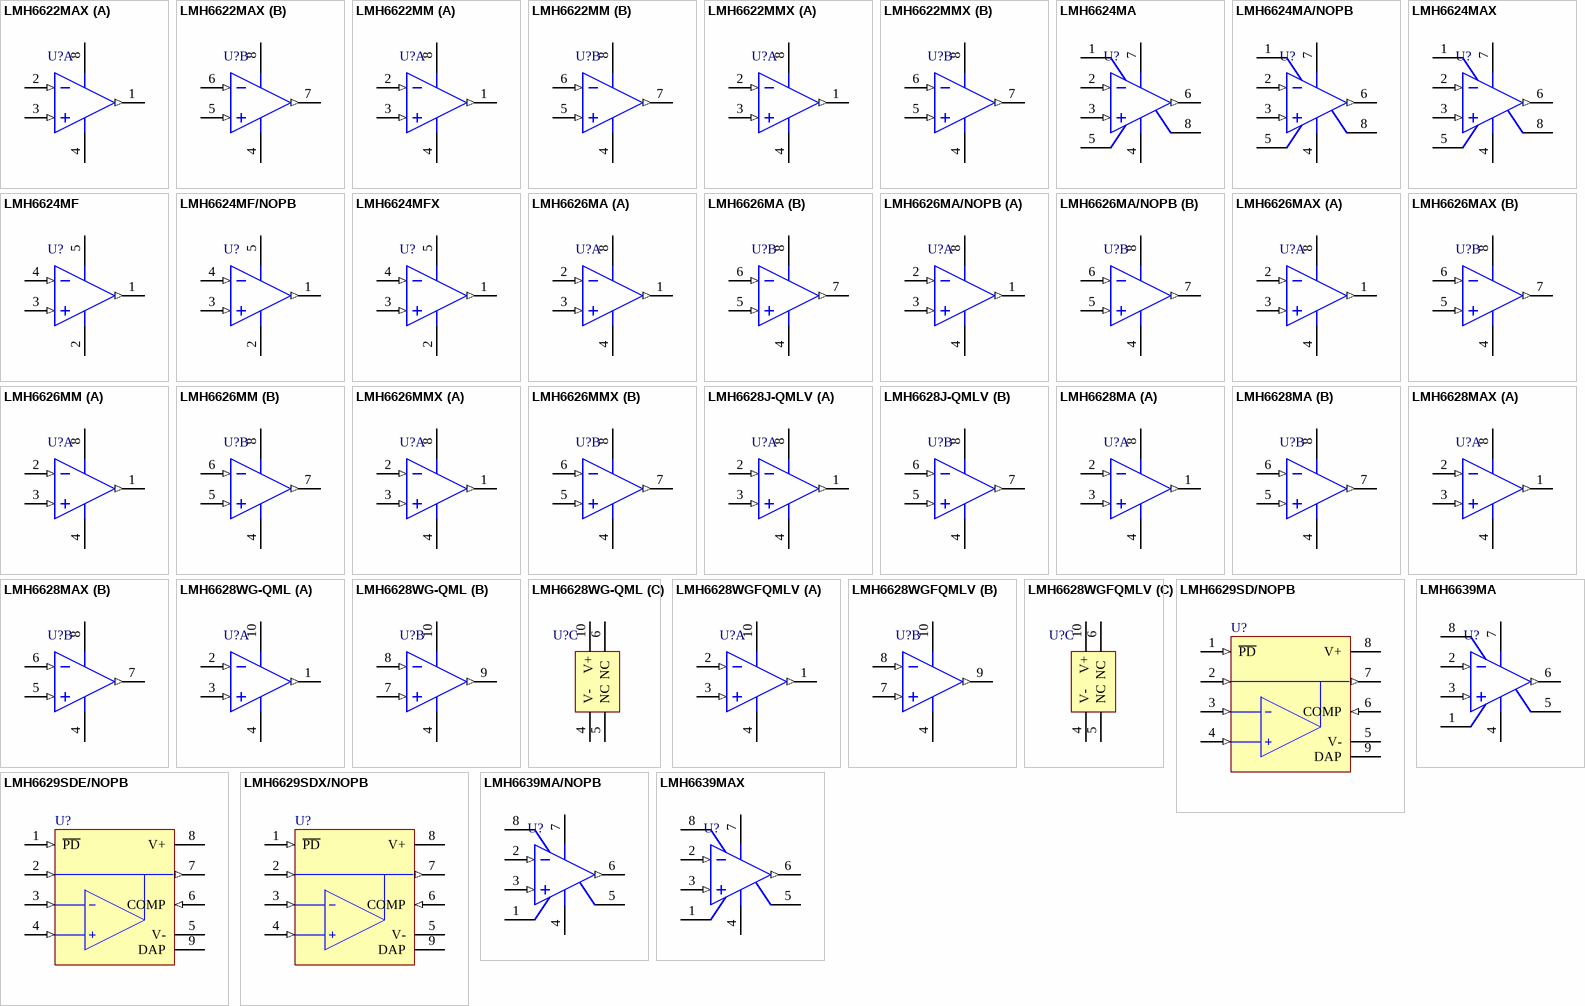
[diagram p45: symbols LMH6622MAX to LMH6639MAX]

## LMH6622MAX
designator U?
Dual Wideband, Low Noise, 160MHz, Operational Amplifiers, 8-pin Narrow SOIC; PartNumber: LMH6622MAX; Manufacturer: National Semiconductor; PackageTopMarking: NSZXTT*LMH66*22MA; PowerWise: Y; Published: 1-Mar-2010; DatasheetVersion: Jul-2005; PackageVersion: revM, May-2009; PackageReference: M08A; Publisher: Altium Limited; PackageDescription: SOIC Narrow, 4.9 x 3.9 x 1.45mm, 8 Lead, 1.27mm Pitch; RoHS: N; PinCount: 8; CompType: Amplifiers; Code_JEDEC: MS-012-AA; Code_IPC: SOIC127P600-8; ComponentLink1Description: LMH6622 Datasheet; ComponentLink1URL: http://www.national.com/ds/LM/LMH6622.pdf; ComponentLink2Description: LMH6622 Web Page; ComponentLink2URL: http://www.national.com/pf/LM/LMH6622.html; ComponentLink3Description: M08A Package Page; ComponentLink3URL: http://www.national.com/packaging/folders/m08a.html
footprint M08A_N (SOIC, 8-Leads, Body 4.9x3.9mm, Pitch 1.27mm, IPC Medium Density)
footprint M08A_L (SOIC, 8-Leads, Body 4.9x3.9mm, Pitch 1.27mm, IPC High Density)
footprint M08A_M (SOIC, 8-Leads, Body 4.9x3.9mm, Pitch 1.27mm, IPC Low Density)
simulation model LMH6622 (SUBCKT)
pins on every part: 4 V- (power), 8 V+ (power)
part A pins: 1 OUTA (out), 2 INA- (in), 3 INA+ (in)
part B pins: 5 INB+ (in), 6 INB- (in), 7 OUTB (out)

## LMH6622MM
designator U?
Dual Wideband, Low Noise, 160MHz, Operational Amplifiers, 8-pin Mini SOIC; PartNumber: LMH6622MM; Manufacturer: National Semiconductor; PackageTopMarking: ZXTT*A80A; PowerWise: Y; Published: 4-Dec-2008; LatestRevisionDate: 13-Jan-2009; LatestRevisionNote: Sim Model Added.; DatasheetVersion: Jul-2005; PackageVersion: revF, Apr-2008; PackageReference: MUA08A; Publisher: Altium Limited; PackageDescription: MINI SOIC, .118 x .118 x .034in, 8 Lead, .0256in Pitch; Supplier 1: Farnell; Supplier Part Number 1: 1312809; RoHS: N; PinCount: 8; CompType: Amplifiers; Code_JEDEC: MO-187-AA; ComponentLink1Description: LMH6622 Datasheet; ComponentLink1URL: http://www.national.com/ds/LM/LMH6622.pdf; ComponentLink2Description: LMH6622 Web Page; ComponentLink2URL: http://www.national.com/pf/LM/LMH6622.html; ComponentLink3Description: MUA08A Package Page; ComponentLink3URL: http://www.national.com/packaging/folders/mua08a.html
footprint MUA08A_N (TSOP, 8-Leads, Body 3x3mm, Pitch 0.65mm, IPC Medium Density)
footprint MUA08A_L (TSOP, 8-Leads, Body 3x3mm, Pitch 0.65mm, IPC High Density)
footprint MUA08A_M (TSOP, 8-Leads, Body 3x3mm, Pitch 0.65mm, IPC Low Density)
simulation model LMH6622 (SUBCKT)
pins on every part: 4 V- (power), 8 V+ (power)
part A pins: 1 OUTA (out), 2 INA- (in), 3 INA+ (in)
part B pins: 5 INB+ (in), 6 INB- (in), 7 OUTB (out)

## LMH6622MMX
designator U?
Dual Wideband, Low Noise, 160MHz, Operational Amplifiers, 8-pin Mini SOIC; PartNumber: LMH6622MMX; Manufacturer: National Semiconductor; PackageTopMarking: ZXTT*A80A; PowerWise: Y; Published: 1-Mar-2010; DatasheetVersion: Jul-2005; PackageVersion: revF, Apr-2008; PackageReference: MUA08A; Publisher: Altium Limited; PackageDescription: MINI SOIC, .118 x .118 x .034in, 8 Lead, .0256in Pitch; RoHS: N; PinCount: 8; CompType: Amplifiers; Code_JEDEC: MO-187-AA; ComponentLink1Description: LMH6622 Datasheet; ComponentLink1URL: http://www.national.com/ds/LM/LMH6622.pdf; ComponentLink2Description: LMH6622 Web Page; ComponentLink2URL: http://www.national.com/pf/LM/LMH6622.html; ComponentLink3Description: MUA08A Package Page; ComponentLink3URL: http://www.national.com/packaging/folders/mua08a.html
footprint MUA08A_N (TSOP, 8-Leads, Body 3x3mm, Pitch 0.65mm, IPC Medium Density)
footprint MUA08A_L (TSOP, 8-Leads, Body 3x3mm, Pitch 0.65mm, IPC High Density)
footprint MUA08A_M (TSOP, 8-Leads, Body 3x3mm, Pitch 0.65mm, IPC Low Density)
simulation model LMH6622 (SUBCKT)
pins on every part: 4 V- (power), 8 V+ (power)
part A pins: 1 OUTA (out), 2 INA- (in), 3 INA+ (in)
part B pins: 5 INB+ (in), 6 INB- (in), 7 OUTB (out)

## LMH6624MA
designator U?
Single Ultra Low Noise Wideband Operational Amplifier, 8-pin Narrow SOIC; PartNumber: LMH6624MA; Manufacturer: National Semiconductor; PackageTopMarking: NSZXTT*LMH66*24MA; PowerWise: Y; CompType: Amplifiers; Published: 4-Dec-2008; LatestRevisionDate: 13-Jan-2009; LatestRevisionNote: Sim Model Added.; DatasheetVersion: Sep-2005; PackageVersion: revM, May-2009; PackageReference: M08A; Publisher: Altium Limited; PackageDescription: SOIC Narrow, 4.9 x 3.9 x 1.45mm, 8 Lead, 1.27mm Pitch; Supplier 1: Farnell; Supplier Part Number 1: 8180750; RoHS: N; PinCount: 8; Code_JEDEC: MS-012-AA; Code_IPC: SOIC127P600-8; ComponentLink1Description: LMH6624 Datasheet; ComponentLink1URL: http://www.national.com/ds/LM/LMH6624.pdf; ComponentLink2Description: LMH6624 Web Page; ComponentLink2URL: http://www.national.com/pf/LM/LMH6624.html; ComponentLink3Description: M08A Package Page; ComponentLink3URL: http://www.national.com/packaging/folders/m08a.html
footprint M08A_N (SOIC, 8-Leads, Body 4.9x3.9mm, Pitch 1.27mm, IPC Medium Density)
footprint M08A_L (SOIC, 8-Leads, Body 4.9x3.9mm, Pitch 1.27mm, IPC High Density)
footprint M08A_M (SOIC, 8-Leads, Body 4.9x3.9mm, Pitch 1.27mm, IPC Low Density)
simulation model LMH6624 (SUBCKT)
pins: 1 NC, 2 IN- (in), 3 IN+ (in), 4 V- (power), 5 NC, 6 OUT (out), 7 V+ (power), 8 NC

## LMH6624MA/NOPB
designator U?
Single/ Dual Ultra Low Noise Wideband Operational Amplifier, 8-pin Narrow SOIC, Pb-Free; PartNumber: LMH6624MA/NOPB; Manufacturer: National Semiconductor; PackageTopMarking: NSZXTT*LMH66*24MA; PowerWise: Y; CompType: Amplifiers; Published: 1-Mar-2010; DatasheetVersion: Sep-2005; PackageVersion: revM, May-2009; PackageReference: M08A; Publisher: Altium Limited; PackageDescription: SOIC Narrow, 4.9 x 3.9 x 1.45mm, 8 Lead, 1.27mm Pitch; Supplier 1: Digi-Key; Supplier Part Number 1: LMH6624MA-ND; Supplier 2: Farnell; Supplier Part Number 2: 1693958; RoHS: Y; PinCount: 8; Code_JEDEC: MS-012-AA; Code_IPC: SOIC127P600-8; ComponentLink1Description: LMH6624 Datasheet; ComponentLink1URL: http://www.national.com/ds/LM/LMH6624.pdf; ComponentLink2Description: LMH6624 Web Page; ComponentLink2URL: http://www.national.com/pf/LM/LMH6624.html; ComponentLink3Description: M08A Package Page; ComponentLink3URL: http://www.national.com/packaging/folders/m08a.html
footprint M08A_N (SOIC, 8-Leads, Body 4.9x3.9mm, Pitch 1.27mm, IPC Medium Density)
footprint M08A_L (SOIC, 8-Leads, Body 4.9x3.9mm, Pitch 1.27mm, IPC High Density)
footprint M08A_M (SOIC, 8-Leads, Body 4.9x3.9mm, Pitch 1.27mm, IPC Low Density)
simulation model LMH6624 (SUBCKT)
pins: 1 NC, 2 IN- (in), 3 IN+ (in), 4 V- (power), 5 NC, 6 OUT (out), 7 V+ (power), 8 NC

## LMH6624MAX
designator U?
Single/ Dual Ultra Low Noise Wideband Operational Amplifier, 8-pin Narrow SOIC; PartNumber: LMH6624MAX; Manufacturer: National Semiconductor; PackageTopMarking: NSZXTT*LMH66*24MA; PowerWise: Y; CompType: Amplifiers; Published: 1-Mar-2010; DatasheetVersion: Sep-2005; PackageVersion: revM, May-2009; PackageReference: M08A; Publisher: Altium Limited; PackageDescription: SOIC Narrow, 4.9 x 3.9 x 1.45mm, 8 Lead, 1.27mm Pitch; RoHS: N; PinCount: 8; Code_JEDEC: MS-012-AA; Code_IPC: SOIC127P600-8; ComponentLink1Description: LMH6624 Datasheet; ComponentLink1URL: http://www.national.com/ds/LM/LMH6624.pdf; ComponentLink2Description: LMH6624 Web Page; ComponentLink2URL: http://www.national.com/pf/LM/LMH6624.html; ComponentLink3Description: M08A Package Page; ComponentLink3URL: http://www.national.com/packaging/folders/m08a.html
footprint M08A_N (SOIC, 8-Leads, Body 4.9x3.9mm, Pitch 1.27mm, IPC Medium Density)
footprint M08A_L (SOIC, 8-Leads, Body 4.9x3.9mm, Pitch 1.27mm, IPC High Density)
footprint M08A_M (SOIC, 8-Leads, Body 4.9x3.9mm, Pitch 1.27mm, IPC Low Density)
simulation model LMH6624 (SUBCKT)
pins: 1 NC, 2 IN- (in), 3 IN+ (in), 4 V- (power), 5 NC, 6 OUT (out), 7 V+ (power), 8 NC

## LMH6624MF
designator U?
Single Ultra Low Noise Wideband Operational Amplifier, 5-pin SOT-23; PartNumber: LMH6624MF; Manufacturer: National Semiconductor; PackageTopMarking: A94A*XTT; PowerWise: Y; CompType: Amplifiers; Published: 4-Dec-2008; LatestRevisionDate: 13-Jan-2009; LatestRevisionNote: Sim Model Added.; DatasheetVersion: Sep-2005; PackageVersion: revD, Aug-2008; PackageReference: MF05A; Publisher: Altium Limited; PackageDescription: Molded SOT-23, .115 x .063 x .040 in Body, 5 Lead, .0375 in Pitch; Supplier 1: Farnell; Supplier Part Number 1: 7611286; RoHS: N; PinCount: 5; ComponentLink1Description: LMH6624 Datasheet; ComponentLink1URL: http://www.national.com/ds/LM/LMH6624.pdf; ComponentLink2Description: LMH6624 Web Page; ComponentLink2URL: http://www.national.com/pf/LM/LMH6624.html; ComponentLink3Description: MF05A Package Page; ComponentLink3URL: http://www.national.com/packaging/folders/mf05a.html
footprint MF05A_N (SOT23, 5-Leads, Body 2.9x1.6mm, Pitch 0.95mm, Lead Span 2.8mm, IPC Medium Density)
footprint MF05A_L (SOT23, 5-Leads, Body 2.9x1.6mm, Pitch 0.95mm, Lead Span 2.8mm, IPC High Density)
footprint MF05A_M (SOT23, 5-Leads, Body 2.9x1.6mm, Pitch 0.95mm, Lead Span 2.8mm, IPC Low Density)
simulation model LMH6624 (SUBCKT)
pins: 1 OUT (out), 2 V- (power), 3 IN+ (in), 4 IN- (in), 5 V+ (power)

## LMH6624MF/NOPB
designator U?
Single/ Dual Ultra Low Noise Wideband Operational Amplifier, 5-pin SOT-23, Pb-Free; PartNumber: LMH6624MF/NOPB; Manufacturer: National Semiconductor; PackageTopMarking: A94A*XTT; PowerWise: Y; CompType: Amplifiers; Published: 1-Mar-2010; DatasheetVersion: Sep-2005; PackageVersion: revD, Aug-2008; PackageReference: MF05A; Publisher: Altium Limited; PackageDescription: Molded SOT-23, .115 x .063 x .040 in Body, 5 Lead, .0375 in Pitch; Supplier 1: Digi-Key; Supplier Part Number 1: LMH6624MFTR-ND; Supplier 2: Digi-Key; Supplier Part Number 2: LMH6624MFCT-ND; Supplier 3: Digi-Key; Supplier Part Number 3: LMH6624MFDKR-ND; Supplier 4: Farnell; Supplier Part Number 4: 1468897; RoHS: Y; PinCount: 5; ComponentLink1Description: LMH6624 Datasheet; ComponentLink1URL: http://www.national.com/ds/LM/LMH6624.pdf; ComponentLink2Description: LMH6624 Web Page; ComponentLink2URL: http://www.national.com/pf/LM/LMH6624.html; ComponentLink3Description: MF05A Package Page; ComponentLink3URL: http://www.national.com/packaging/folders/mf05a.html
footprint MF05A_N (SOT23, 5-Leads, Body 2.9x1.6mm, Pitch 0.95mm, Lead Span 2.8mm, IPC Medium Density)
footprint MF05A_L (SOT23, 5-Leads, Body 2.9x1.6mm, Pitch 0.95mm, Lead Span 2.8mm, IPC High Density)
footprint MF05A_M (SOT23, 5-Leads, Body 2.9x1.6mm, Pitch 0.95mm, Lead Span 2.8mm, IPC Low Density)
simulation model LMH6624 (SUBCKT)
pins: 1 OUT (out), 2 V- (power), 3 IN+ (in), 4 IN- (in), 5 V+ (power)

## LMH6624MFX
designator U?
Single/ Dual Ultra Low Noise Wideband Operational Amplifier, 5-pin SOT-23; PartNumber: LMH6624MFX; Manufacturer: National Semiconductor; PackageTopMarking: A94A*XTT; PowerWise: Y; CompType: Amplifiers; Published: 1-Mar-2010; DatasheetVersion: Sep-2005; PackageVersion: revD, Aug-2008; PackageReference: MF05A; Publisher: Altium Limited; PackageDescription: Molded SOT-23, .115 x .063 x .040 in Body, 5 Lead, .0375 in Pitch; RoHS: N; PinCount: 5; ComponentLink1Description: LMH6624 Datasheet; ComponentLink1URL: http://www.national.com/ds/LM/LMH6624.pdf; ComponentLink2Description: LMH6624 Web Page; ComponentLink2URL: http://www.national.com/pf/LM/LMH6624.html; ComponentLink3Description: MF05A Package Page; ComponentLink3URL: http://www.national.com/packaging/folders/mf05a.html
footprint MF05A_N (SOT23, 5-Leads, Body 2.9x1.6mm, Pitch 0.95mm, Lead Span 2.8mm, IPC Medium Density)
footprint MF05A_L (SOT23, 5-Leads, Body 2.9x1.6mm, Pitch 0.95mm, Lead Span 2.8mm, IPC High Density)
footprint MF05A_M (SOT23, 5-Leads, Body 2.9x1.6mm, Pitch 0.95mm, Lead Span 2.8mm, IPC Low Density)
simulation model LMH6624 (SUBCKT)
pins: 1 OUT (out), 2 V- (power), 3 IN+ (in), 4 IN- (in), 5 V+ (power)

## LMH6626MA
designator U?
Dual Ultra Low Noise Wideband Operational Amplifier, 8-pin Narrow SOIC; PartNumber: LMH6626MA; Manufacturer: National Semiconductor; PackageTopMarking: NSZXTT*LMH66*26MA; PowerWise: Y; CompType: Amplifiers; Published: 4-Dec-2008; LatestRevisionDate: 13-Jan-2009; LatestRevisionNote: Sim Model Added.; DatasheetVersion: Sep-2005; PackageVersion: revM, May-2009; PackageReference: M08A; Publisher: Altium Limited; PackageDescription: SOIC Narrow, 4.9 x 3.9 x 1.45mm, 8 Lead, 1.27mm Pitch; Supplier 1: Farnell; Supplier Part Number 1: 8180768; RoHS: N; PinCount: 8; Code_JEDEC: MS-012-AA; Code_IPC: SOIC127P600-8; ComponentLink1Description: LMH6626 Datasheet; ComponentLink1URL: http://www.national.com/ds/LM/LMH6626.pdf; ComponentLink2Description: LMH6626 Web Page; ComponentLink2URL: http://www.national.com/pf/LM/LMH6626.html; ComponentLink3Description: M08A Package Page; ComponentLink3URL: http://www.national.com/packaging/folders/m08a.html
footprint M08A_N (SOIC, 8-Leads, Body 4.9x3.9mm, Pitch 1.27mm, IPC Medium Density)
footprint M08A_L (SOIC, 8-Leads, Body 4.9x3.9mm, Pitch 1.27mm, IPC High Density)
footprint M08A_M (SOIC, 8-Leads, Body 4.9x3.9mm, Pitch 1.27mm, IPC Low Density)
simulation model LMH6624 (SUBCKT)
pins on every part: 4 V- (power), 8 V+ (power)
part A pins: 1 OUTA (out), 2 INA- (in), 3 INA+ (in)
part B pins: 5 INB+ (in), 6 INB- (in), 7 OUTB (out)

## LMH6626MA/NOPB
designator U?
Single/ Dual Ultra Low Noise Wideband Operational Amplifier, 8-pin Narrow SOIC, Pb-Free; PartNumber: LMH6626MA/NOPB; Manufacturer: National Semiconductor; PackageTopMarking: NSZXTT*LMH66*26MA; PowerWise: Y; CompType: Amplifiers; Published: 1-Mar-2010; DatasheetVersion: Sep-2005; PackageVersion: revM, May-2009; PackageReference: M08A; Publisher: Altium Limited; PackageDescription: SOIC Narrow, 4.9 x 3.9 x 1.45mm, 8 Lead, 1.27mm Pitch; Supplier 1: Digi-Key; Supplier Part Number 1: LMH6626MA-ND; Supplier 2: Farnell; Supplier Part Number 2: 1693959; RoHS: Y; PinCount: 8; Code_JEDEC: MS-012-AA; Code_IPC: SOIC127P600-8; ComponentLink1Description: LMH6626 Datasheet; ComponentLink1URL: http://www.national.com/ds/LM/LMH6626.pdf; ComponentLink2Description: LMH6626 Web Page; ComponentLink2URL: http://www.national.com/pf/LM/LMH6626.html; ComponentLink3Description: M08A Package Page; ComponentLink3URL: http://www.national.com/packaging/folders/m08a.html
footprint M08A_N (SOIC, 8-Leads, Body 4.9x3.9mm, Pitch 1.27mm, IPC Medium Density)
footprint M08A_L (SOIC, 8-Leads, Body 4.9x3.9mm, Pitch 1.27mm, IPC High Density)
footprint M08A_M (SOIC, 8-Leads, Body 4.9x3.9mm, Pitch 1.27mm, IPC Low Density)
simulation model LMH6624 (SUBCKT)
pins on every part: 4 V- (power), 8 V+ (power)
part A pins: 1 OUTA (out), 2 INA- (in), 3 INA+ (in)
part B pins: 5 INB+ (in), 6 INB- (in), 7 OUTB (out)

## LMH6626MAX
designator U?
Single/ Dual Ultra Low Noise Wideband Operational Amplifier, 8-pin Narrow SOIC; PartNumber: LMH6626MAX; Manufacturer: National Semiconductor; PackageTopMarking: NSZXTT*LMH66*26MA; PowerWise: Y; CompType: Amplifiers; Published: 1-Mar-2010; DatasheetVersion: Sep-2005; PackageVersion: revM, May-2009; PackageReference: M08A; Publisher: Altium Limited; PackageDescription: SOIC Narrow, 4.9 x 3.9 x 1.45mm, 8 Lead, 1.27mm Pitch; RoHS: N; PinCount: 8; Code_JEDEC: MS-012-AA; Code_IPC: SOIC127P600-8; ComponentLink1Description: LMH6626 Datasheet; ComponentLink1URL: http://www.national.com/ds/LM/LMH6626.pdf; ComponentLink2Description: LMH6626 Web Page; ComponentLink2URL: http://www.national.com/pf/LM/LMH6626.html; ComponentLink3Description: M08A Package Page; ComponentLink3URL: http://www.national.com/packaging/folders/m08a.html
footprint M08A_N (SOIC, 8-Leads, Body 4.9x3.9mm, Pitch 1.27mm, IPC Medium Density)
footprint M08A_L (SOIC, 8-Leads, Body 4.9x3.9mm, Pitch 1.27mm, IPC High Density)
footprint M08A_M (SOIC, 8-Leads, Body 4.9x3.9mm, Pitch 1.27mm, IPC Low Density)
simulation model LMH6624 (SUBCKT)
pins on every part: 4 V- (power), 8 V+ (power)
part A pins: 1 OUTA (out), 2 INA- (in), 3 INA+ (in)
part B pins: 5 INB+ (in), 6 INB- (in), 7 OUTB (out)

## LMH6626MM
designator U?
Dual Ultra Low Noise Wideband Operational Amplifier, 8-pin Mini SOIC; PartNumber: LMH6626MM; Manufacturer: National Semiconductor; PackageTopMarking: ZXTT*A98A; PowerWise: Y; CompType: Amplifiers; Published: 4-Dec-2008; LatestRevisionDate: 13-Jan-2009; LatestRevisionNote: Sim Model Added.; DatasheetVersion: Sep-2005; PackageVersion: revF, Apr-2008; PackageReference: MUA08A; Publisher: Altium Limited; PackageDescription: MINI SOIC, .118 x .118 x .034in, 8 Lead, .0256in Pitch; Supplier 1: Farnell; Supplier Part Number 1: 1312604; RoHS: N; PinCount: 8; Code_JEDEC: MO-187-AA; ComponentLink1Description: LMH6626 Datasheet; ComponentLink1URL: http://www.national.com/ds/LM/LMH6626.pdf; ComponentLink2Description: LMH6626 Web Page; ComponentLink2URL: http://www.national.com/pf/LM/LMH6626.html; ComponentLink3Description: MUA08A Package Page; ComponentLink3URL: http://www.national.com/packaging/folders/mua08a.html
footprint MUA08A_N (TSOP, 8-Leads, Body 3x3mm, Pitch 0.65mm, IPC Medium Density)
footprint MUA08A_L (TSOP, 8-Leads, Body 3x3mm, Pitch 0.65mm, IPC High Density)
footprint MUA08A_M (TSOP, 8-Leads, Body 3x3mm, Pitch 0.65mm, IPC Low Density)
simulation model LMH6624 (SUBCKT)
pins on every part: 4 V- (power), 8 V+ (power)
part A pins: 1 OUTA (out), 2 INA- (in), 3 INA+ (in)
part B pins: 5 INB+ (in), 6 INB- (in), 7 OUTB (out)

## LMH6626MMX
designator U?
Single/ Dual Ultra Low Noise Wideband Operational Amplifier, 8-pin Mini SOIC; PartNumber: LMH6626MMX; Manufacturer: National Semiconductor; PackageTopMarking: ZXTT*A98A; PowerWise: Y; CompType: Amplifiers; Published: 1-Mar-2010; DatasheetVersion: Sep-2005; PackageVersion: revF, Apr-2008; PackageReference: MUA08A; Publisher: Altium Limited; PackageDescription: MINI SOIC, .118 x .118 x .034in, 8 Lead, .0256in Pitch; RoHS: N; PinCount: 8; Code_JEDEC: MO-187-AA; ComponentLink1Description: LMH6626 Datasheet; ComponentLink1URL: http://www.national.com/ds/LM/LMH6626.pdf; ComponentLink2Description: LMH6626 Web Page; ComponentLink2URL: http://www.national.com/pf/LM/LMH6626.html; ComponentLink3Description: MUA08A Package Page; ComponentLink3URL: http://www.national.com/packaging/folders/mua08a.html
footprint MUA08A_N (TSOP, 8-Leads, Body 3x3mm, Pitch 0.65mm, IPC Medium Density)
footprint MUA08A_L (TSOP, 8-Leads, Body 3x3mm, Pitch 0.65mm, IPC High Density)
footprint MUA08A_M (TSOP, 8-Leads, Body 3x3mm, Pitch 0.65mm, IPC Low Density)
simulation model LMH6624 (SUBCKT)
pins on every part: 4 V- (power), 8 V+ (power)
part A pins: 1 OUTA (out), 2 INA- (in), 3 INA+ (in)
part B pins: 5 INB+ (in), 6 INB- (in), 7 OUTB (out)

## LMH6628J-QMLV
designator U?
Dual Wideband, Low Noise, Voltage Feedback Op Amp, 8-pin CerDIP; PartNumber: LMH6628J-QMLV; Manufacturer: National Semiconductor; PackageTopMarking: NSZSSXXYYA*LMH6628J-*QV Q 5962-*0254501VPA; PowerWise: Y; CompType: Amplifiers; Published: 4-Dec-2008; LatestRevisionDate: 13-Jan-2009; LatestRevisionNote: Sim Model Added.; DatasheetVersion: May-2005; PackageVersion: revM, Jul-2002; PackageReference: J08A; Publisher: Altium Limited; PackageDescription: Cerdip, .400 x .310in Body, 8 Lead, .300in Centers, .100in Pitch; RoHS: N; PinCount: 8; High-Reliability: Y; ComponentLink1Description: LMH6628 Datasheet; ComponentLink1URL: http://www.national.com/ds/LM/LMH6628.pdf; ComponentLink2Description: LMH6628 Web Page; ComponentLink2URL: http://www.national.com/pf/LM/LMH6628.html; ComponentLink3Description: J08A Package Page; ComponentLink3URL: http://www.national.com/packaging/folders/j08a.html
footprint J08A (DIP, 8-Leads, Row Spacing 7.62mm, Pitch 2.54mm, Body 9.78x6.73mm)
simulation model LMH6628 (SUBCKT)
pins on every part: 4 V- (power), 8 V+ (power)
part A pins: 1 OUT1 (out), 2 IN1- (in), 3 IN1+ (in)
part B pins: 5 IN2+ (in), 6 IN2- (in), 7 OUT2 (out)

## LMH6628MA
designator U?
Dual Wideband, Low Noise, Voltage Feedback Op Amp, 8-pin Narrow SOIC; PartNumber: LMH6628MA; Manufacturer: National Semiconductor; PackageTopMarking: NSZXTT*LMH66*28MA; PowerWise: Y; CompType: Amplifiers; Published: 4-Dec-2008; LatestRevisionDate: 13-Jan-2009; LatestRevisionNote: Sim Model Added.; DatasheetVersion: May-2005; PackageVersion: revM, May-2009; PackageReference: M08A; Publisher: Altium Limited; PackageDescription: SOIC Narrow, 4.9 x 3.9 x 1.45mm, 8 Lead, 1.27mm Pitch; Supplier 1: Farnell; Supplier Part Number 1: 7613763; RoHS: N; PinCount: 8; Code_JEDEC: MS-012-AA; Code_IPC: SOIC127P600-8; ComponentLink1Description: LMH6628 Datasheet; ComponentLink1URL: http://www.national.com/ds/LM/LMH6628.pdf; ComponentLink2Description: LMH6628 Web Page; ComponentLink2URL: http://www.national.com/pf/LM/LMH6628.html; ComponentLink3Description: M08A Package Page; ComponentLink3URL: http://www.national.com/packaging/folders/m08a.html
footprint M08A_N (SOIC, 8-Leads, Body 4.9x3.9mm, Pitch 1.27mm, IPC Medium Density)
footprint M08A_L (SOIC, 8-Leads, Body 4.9x3.9mm, Pitch 1.27mm, IPC High Density)
footprint M08A_M (SOIC, 8-Leads, Body 4.9x3.9mm, Pitch 1.27mm, IPC Low Density)
simulation model LMH6628 (SUBCKT)
pins on every part: 4 V- (power), 8 V+ (power)
part A pins: 1 OUT1 (out), 2 IN1- (in), 3 IN1+ (in)
part B pins: 5 IN2+ (in), 6 IN2- (in), 7 OUT2 (out)